# EAGLE library part ACS712 (library IC)
http://search.digikey.com/scripts/DkSearch/dksus.dll?Detail&name=620-1190-2-ND
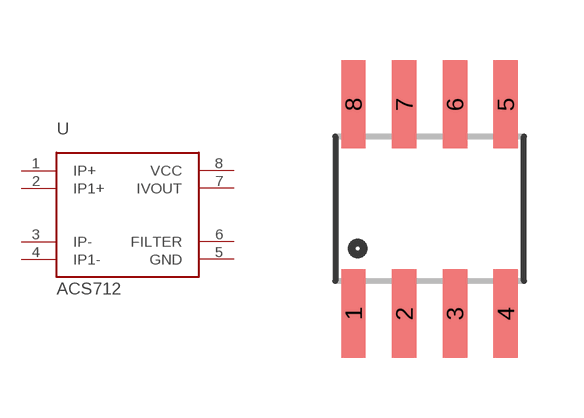
[diagram p5: symbol with the pads of SO08; footprint SO08]

Designator prefix U

## ACS712  [SO08]
1  IP+
2  IP1+
3  IP-
4  IP1-
5  GND
6  FILTER
7  IVOUT
8  VCC

## Footprint SO08 (pad centres in mm)
Small Outline Package
smd 0.61 x 2.21: 1 -1.905,-2.616; 2 -0.635,-2.616; 3 0.635,-2.616; 4 1.905,-2.616; 5 1.905,2.616; 6 0.635,2.616; 7 -0.635,2.616; 8 -1.905,2.616